# Altium integrated library TI_Logic_Specialty_Logic.IntLib: 2504 symbols (part 22 of 81)
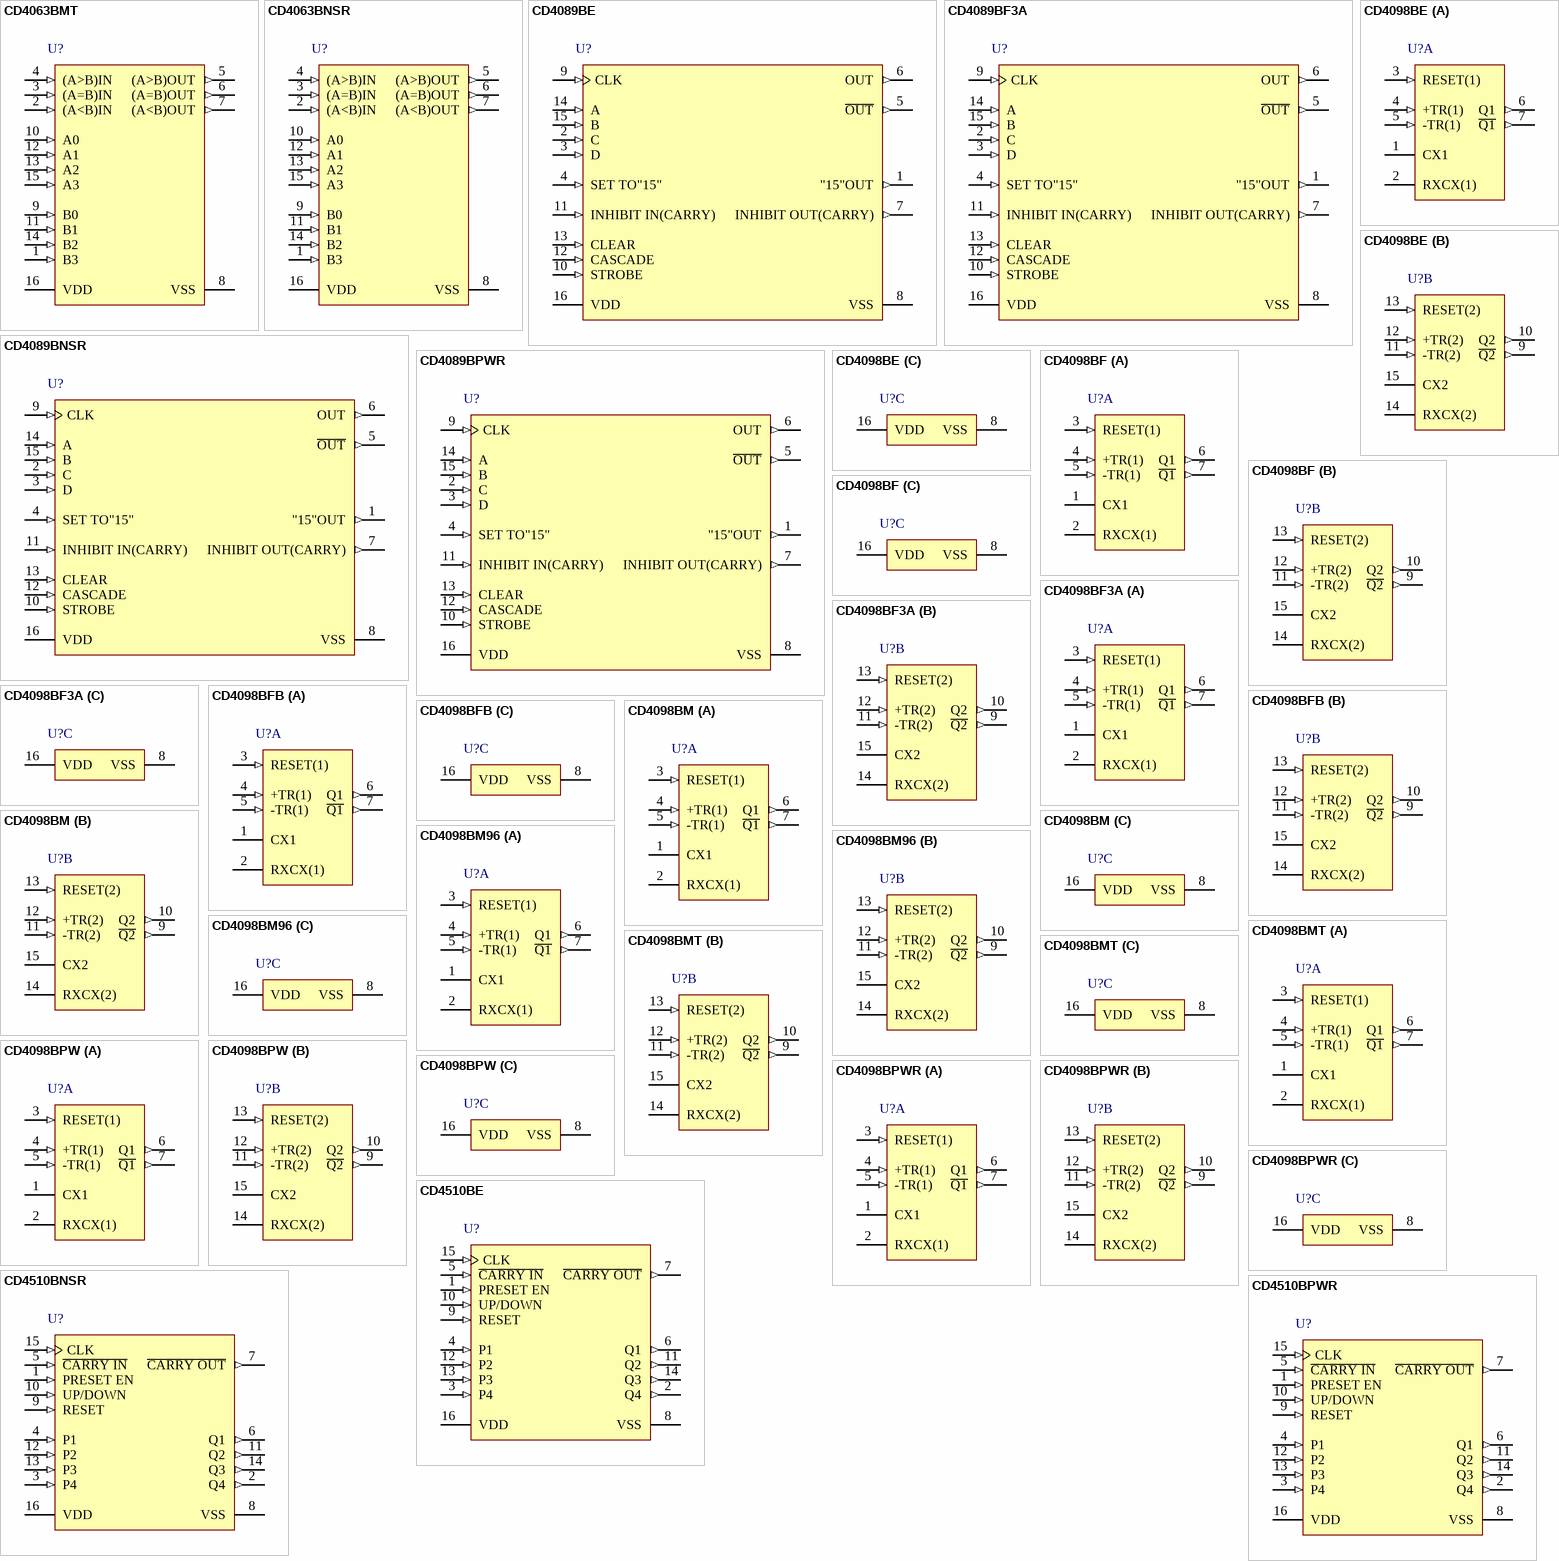
[diagram p125: symbols CD4063BMT to CD4510BPWR]

## CD4098BPWR
designator U?
CMOS Dual Monostable Multivibrator, PW0016A, LARGE T&R; Generic Part Number: CD4098B; Manufacturer: Texas Instruments; PartNumber: CD4098BPWR; VCC(Max)(V): 18; VCC(Min)(V): 3; ICC @ Nom Voltage(Max)(mA): 0.06; Bits(#): 2; F @ Nom Voltage(Max)(Mhz): 8; Rating: Catalog; Technology Family: CD4000; Voltage(Nom)(V): 10; Schmitt Trigger: No; Output Drive (IOL/IOH)(Max)(mA): 4/-4; tpd @ Nom Voltage(Max)(ns): 250; DatasheetVersion: SCHS065C; PackageReference: PW0016A; Supplier 1: Mouser; Supplier Part Number 1: 595-CD4098BPWR; Supplier 2: Digi-Key; Supplier Part Number 2: 296-31527-2-ND; Supplier 3: Digi-Key; Supplier Part Number 3: 296-31527-1-ND; Supplier 4: Digi-Key; Supplier Part Number 4: 296-31527-6-ND; Output Type: CMOS; Input Type: CMOS; Operating Temperature Range(C): -55 to 125; Code_JEDEC: MO-153; ComponentLink1Description: Manufacturer URL; ComponentLink1URL: http://www.ti.com/; ComponentLink2Description: Datasheet; ComponentLink2URL: http://www.ti.com/lit/ds/symlink/cd4098b.pdf; ComponentLink3Description: Package Specification; ComponentLink3URL: http://www.ti.com/lit/ml/mpds361/mpds361.pdf
footprint PW0016A_N (SOP, 16-Leads, Body 5.1x4.5mm, Pitch 0.65mm, IPC Medium Density)
footprint PW0016A_M (SOP, 16-Leads, Body 5.1x4.5mm, Pitch 0.65mm, IPC Low Density)
footprint PW0016A_L (SOP, 16-Leads, Body 5.1x4.5mm, Pitch 0.65mm, IPC High Density)
part A pins: 1 CX1, 2 RXCX(1), 3 RESET(1) (in), 4 +TR(1) (in), 5 -TR(1) (in), 6 Q1 (out), 7 ~{Q1} (out)
part B pins: 9 ~{Q2} (out), 10 Q2 (out), 11 -TR(2) (in), 12 +TR(2) (in), 13 RESET(2) (in), 14 RXCX(2), 15 CX2
part C pins: 8 VSS (power), 16 VDD (power)

## CD4510BE
designator U?
CMOS Presettable BCD Up/Down Counter, N0016A, TUBE; Generic Part Number: CD4510B; Manufacturer: Texas Instruments; PartNumber: CD4510BE; VCC(Max)(V): 18; VCC(Min)(V): 3; Inputs: 1; ICC @ Nom Voltage(Max)(mA): 0.03; Bits(#): 4; F @ Nom Voltage(Max)(Mhz): 8; Rating: Catalog; Technology Family: CD4000; Voltage(Nom)(V): 5,10,15; Schmitt Trigger: No; Output Drive (IOL/IOH)(Max)(mA): 1.5/-1.5; tpd @ Nom Voltage(Max)(ns): 200; DatasheetVersion: SCHS071B; PackageReference: N0016A; Supplier 1: Mouser; Supplier Part Number 1: 595-CD4510BE; Supplier 2: Digi-Key; Supplier Part Number 2: 296-2167-5-ND; Output Type: CMOS; Function: Counter; Input Type: CMOS; Operating Temperature Range(C): -55 to 125; Type: Other; Code_JEDEC: MS-001; ComponentLink1Description: Manufacturer URL; ComponentLink1URL: http://www.ti.com/; ComponentLink2Description: Datasheet; ComponentLink2URL: http://www.ti.com/lit/ds/symlink/cd4510b.pdf; ComponentLink3Description: Package Specification; ComponentLink3URL: http://www.ti.com/lit/ml/mpdi002c/mpdi002c.pdf
footprint N0016A (DIP, 16-Leads, Body 19.7x6.6mm, Pitch 2.54mm)
pins: 1 PRESET EN (in), 2 Q4 (out), 3 P4 (in), 4 P1 (in), 5 ~{CARRY IN} (in), 6 Q1 (out), 7 ~{CARRY OUT} (out), 8 VSS (power), 9 RESET (in), 10 UP/DOWN (in), 11 Q2 (out), 12 P2 (in), 13 P3 (in), 14 Q3 (out), 15 CLK (in), 16 VDD (power)

## CD4510BNSR
designator U?
CMOS Presettable BCD Up/Down Counter, NS0016A, LARGE T&R; Generic Part Number: CD4510B; Manufacturer: Texas Instruments; PartNumber: CD4510BNSR; VCC(Max)(V): 18; VCC(Min)(V): 3; Inputs: 1; ICC @ Nom Voltage(Max)(mA): 0.03; Bits(#): 4; F @ Nom Voltage(Max)(Mhz): 8; Rating: Catalog; Technology Family: CD4000; Voltage(Nom)(V): 5,10,15; Schmitt Trigger: No; Output Drive (IOL/IOH)(Max)(mA): 1.5/-1.5; tpd @ Nom Voltage(Max)(ns): 200; DatasheetVersion: SCHS071B; PackageReference: NS0016A; Supplier 1: Mouser; Supplier Part Number 1: 595-CD4510BNSR; Supplier 2: Digi-Key; Supplier Part Number 2: 296-14152-2-ND; Supplier 3: Digi-Key; Supplier Part Number 3: 296-14152-1-ND; Supplier 4: Digi-Key; Supplier Part Number 4: 296-14152-6-ND; Output Type: CMOS; Function: Counter; Input Type: CMOS; Operating Temperature Range(C): -55 to 125; Type: Other; ComponentLink1Description: Manufacturer URL; ComponentLink1URL: http://www.ti.com/; ComponentLink2Description: Datasheet; ComponentLink2URL: http://www.ti.com/lit/ds/symlink/cd4510b.pdf; ComponentLink3Description: Package Specification; ComponentLink3URL: http://www.ti.com/lit/ml/msop002a/msop002a.pdf
footprint NS0016A_N (SOIC,16-Leads,Body 10.5x5.6mm,Pitch 1.27mm,IPC Medium Density)
footprint NS0016A_M (SOIC,16-Leads,Body 10.5x5.6mm,Pitch 1.27mm,IPC Low Density)
footprint NS0016A_L (SOIC,16-Leads,Body 10.5x5.6mm,Pitch 1.27mm,IPC High Density)
pins: 1 PRESET EN (in), 2 Q4 (out), 3 P4 (in), 4 P1 (in), 5 ~{CARRY IN} (in), 6 Q1 (out), 7 ~{CARRY OUT} (out), 8 VSS (power), 9 RESET (in), 10 UP/DOWN (in), 11 Q2 (out), 12 P2 (in), 13 P3 (in), 14 Q3 (out), 15 CLK (in), 16 VDD (power)

## CD4510BPWR
designator U?
CMOS Presettable BCD Up/Down Counter, PW0016A, LARGE T&R; Generic Part Number: CD4510B; Manufacturer: Texas Instruments; PartNumber: CD4510BPWR; VCC(Max)(V): 18; VCC(Min)(V): 3; Inputs: 1; ICC @ Nom Voltage(Max)(mA): 0.03; Bits(#): 4; F @ Nom Voltage(Max)(Mhz): 8; Rating: Catalog; Technology Family: CD4000; Voltage(Nom)(V): 5,10,15; Schmitt Trigger: No; Output Drive (IOL/IOH)(Max)(mA): 1.5/-1.5; tpd @ Nom Voltage(Max)(ns): 200; DatasheetVersion: SCHS071B; PackageReference: PW0016A; Supplier 1: Mouser; Supplier Part Number 1: 595-CD4510BPWR; Supplier 2: Digi-Key; Supplier Part Number 2: 296-14153-2-ND; Supplier 3: Digi-Key; Supplier Part Number 3: 296-14153-1-ND; Supplier 4: Digi-Key; Supplier Part Number 4: 296-14153-6-ND; Output Type: CMOS; Function: Counter; Input Type: CMOS; Operating Temperature Range(C): -55 to 125; Type: Other; Code_JEDEC: MO-153; ComponentLink1Description: Manufacturer URL; ComponentLink1URL: http://www.ti.com/; ComponentLink2Description: Datasheet; ComponentLink2URL: http://www.ti.com/lit/ds/symlink/cd4510b.pdf; ComponentLink3Description: Package Specification; ComponentLink3URL: http://www.ti.com/lit/ml/mpds361/mpds361.pdf
footprint PW0016A_N (SOP, 16-Leads, Body 5.1x4.5mm, Pitch 0.65mm, IPC Medium Density)
footprint PW0016A_M (SOP, 16-Leads, Body 5.1x4.5mm, Pitch 0.65mm, IPC Low Density)
footprint PW0016A_L (SOP, 16-Leads, Body 5.1x4.5mm, Pitch 0.65mm, IPC High Density)
pins: 1 PRESET EN (in), 2 Q4 (out), 3 P4 (in), 4 P1 (in), 5 ~{CARRY IN} (in), 6 Q1 (out), 7 ~{CARRY OUT} (out), 8 VSS (power), 9 RESET (in), 10 UP/DOWN (in), 11 Q2 (out), 12 P2 (in), 13 P3 (in), 14 Q3 (out), 15 CLK (in), 16 VDD (power)

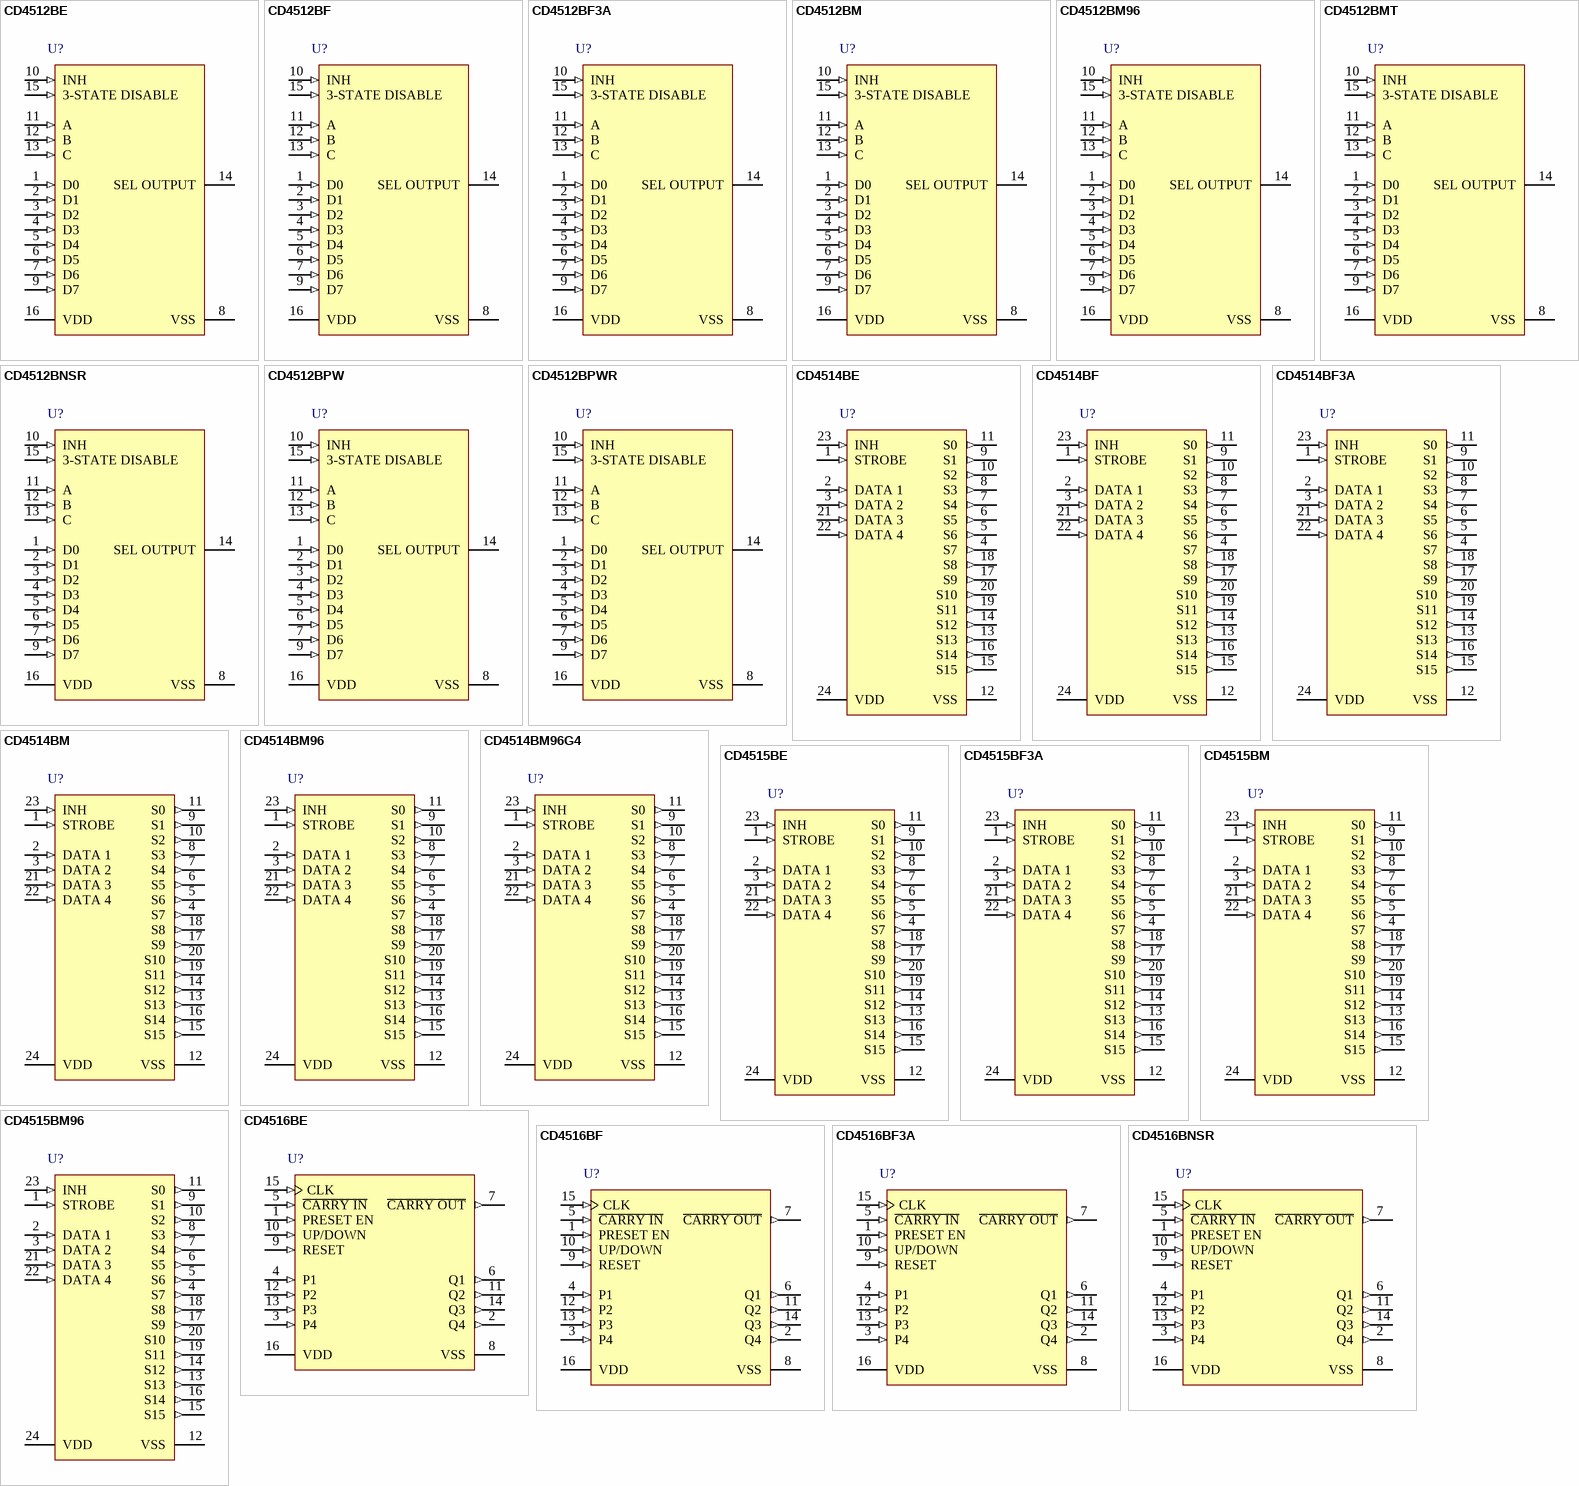
[diagram p28: symbols CD4512BE to CD4516BNSR]

## CD4512BE
designator U?
CMOS 8-Channel Data Selector, N0016A, TUBE; Generic Part Number: CD4512B; Manufacturer: Texas Instruments; PartNumber: CD4512BE; VCC(Max)(V): 18; VCC(Min)(V): 3; Function: Encoder/Multiplexer; ICC @ Nom Voltage(Max)(mA): 0.3; Bits(#): 8; Configuration: 8：1; Channels(#): 1; Rating: Catalog; Technology Family: CD4000; Voltage(Nom)(V): 5,10,15; Schmitt Trigger: No; Output Drive (IOL/IOH)(Max)(mA): 1.5/-1.5; tpd @ Nom Voltage(Max)(ns): 140; DatasheetVersion: SCHS073C; PackageReference: N0016A; Supplier 1: Mouser; Supplier Part Number 1: 595-CD4512BE; Supplier 2: Digi-Key; Supplier Part Number 2: 296-2073-5-ND; Output Type: CMOS; Input Type: CMOS; F @ Nom Voltage(Max)(Mhz): 8; Operating Temperature Range(C): -55 to 125; Type: 3-State Output; Code_JEDEC: MS-001; ComponentLink1Description: Manufacturer URL; ComponentLink1URL: http://www.ti.com/; ComponentLink2Description: Datasheet; ComponentLink2URL: http://www.ti.com/lit/ds/symlink/cd4512b.pdf; ComponentLink3Description: Package Specification; ComponentLink3URL: http://www.ti.com/lit/ml/mpdi002c/mpdi002c.pdf
footprint N0016A (DIP, 16-Leads, Body 19.7x6.6mm, Pitch 2.54mm)
pins: 1 D0 (in), 2 D1 (in), 3 D2 (in), 4 D3 (in), 5 D4 (in), 6 D5 (in), 7 D6 (in), 8 VSS (power), 9 D7 (in), 10 INH (in), 11 A (in), 12 B (in), 13 C (in), 14 SEL OUTPUT (hiz), 15 3-STATE DISABLE (in), 16 VDD (power)

## CD4512BF
designator U?
CMOS 8-Channel Data Selector, J0016A, TUBE; Generic Part Number: CD4512B-MIL; Manufacturer: Texas Instruments; PartNumber: CD4512BF; VCC(Max)(V): 18; VCC(Min)(V): 3; ICC @ Nom Voltage(Max)(mA): 0.3; F @ Nom Voltage(Max)(Mhz): 8; Channels(#): 1; Rating: Military; Technology Family: CD4000; Voltage(Nom)(V): 10; Schmitt Trigger: No; Output Drive (IOL/IOH)(Max)(mA): 1.5/-1.5; tpd @ Nom Voltage(Max)(ns): 140; DatasheetVersion: SCHS073C; PackageReference: J0016A; Output Type: CMOS; Input Type: CMOS; Operating Temperature Range(C): -55 to 125; ComponentLink1Description: Manufacturer URL; ComponentLink1URL: http://www.ti.com/; ComponentLink2Description: Datasheet; ComponentLink2URL: http://www.ti.com/lit/ds/symlink/cd4512b-mil.pdf; ComponentLink3Description: Package Specification; ComponentLink3URL: http://www.ti.com/lit/ml/mcer002d/mcer002d.pdf
footprint J0016A (DIP, 16-Leads, Body 21.35x7.2mm, Pitch 2.54mm)
pins: 1 D0 (in), 2 D1 (in), 3 D2 (in), 4 D3 (in), 5 D4 (in), 6 D5 (in), 7 D6 (in), 8 VSS (power), 9 D7 (in), 10 INH (in), 11 A (in), 12 B (in), 13 C (in), 14 SEL OUTPUT (hiz), 15 3-STATE DISABLE (in), 16 VDD (power)

## CD4512BF3A
designator U?
CMOS 8-Channel Data Selector, J0016A, TUBE; Generic Part Number: CD4512B-MIL; Manufacturer: Texas Instruments; PartNumber: CD4512BF3A; VCC(Max)(V): 18; VCC(Min)(V): 3; ICC @ Nom Voltage(Max)(mA): 0.3; F @ Nom Voltage(Max)(Mhz): 8; Channels(#): 1; Rating: Military; Technology Family: CD4000; Voltage(Nom)(V): 10; Schmitt Trigger: No; Output Drive (IOL/IOH)(Max)(mA): 1.5/-1.5; tpd @ Nom Voltage(Max)(ns): 140; DatasheetVersion: SCHS073C; PackageReference: J0016A; Output Type: CMOS; Input Type: CMOS; Operating Temperature Range(C): -55 to 125; ComponentLink1Description: Manufacturer URL; ComponentLink1URL: http://www.ti.com/; ComponentLink2Description: Datasheet; ComponentLink2URL: http://www.ti.com/lit/ds/symlink/cd4512b-mil.pdf; ComponentLink3Description: Package Specification; ComponentLink3URL: http://www.ti.com/lit/ml/mcer002d/mcer002d.pdf
footprint J0016A (DIP, 16-Leads, Body 21.35x7.2mm, Pitch 2.54mm)
pins: 1 D0 (in), 2 D1 (in), 3 D2 (in), 4 D3 (in), 5 D4 (in), 6 D5 (in), 7 D6 (in), 8 VSS (power), 9 D7 (in), 10 INH (in), 11 A (in), 12 B (in), 13 C (in), 14 SEL OUTPUT (hiz), 15 3-STATE DISABLE (in), 16 VDD (power)

## CD4512BM
designator U?
CMOS 8-Channel Data Selector, D0016A, TUBE; Generic Part Number: CD4512B; Manufacturer: Texas Instruments; PartNumber: CD4512BM; VCC(Max)(V): 18; VCC(Min)(V): 3; Function: Encoder/Multiplexer; ICC @ Nom Voltage(Max)(mA): 0.3; Bits(#): 8; Configuration: 8：1; Channels(#): 1; Rating: Catalog; Technology Family: CD4000; Voltage(Nom)(V): 5,10,15; Schmitt Trigger: No; Output Drive (IOL/IOH)(Max)(mA): 1.5/-1.5; tpd @ Nom Voltage(Max)(ns): 140; DatasheetVersion: SCHS073C; PackageReference: D0016A; Supplier 1: Mouser; Supplier Part Number 1: 595-CD4512BM; Supplier 2: Digi-Key; Supplier Part Number 2: 296-32923-5-ND; Output Type: CMOS; Input Type: CMOS; F @ Nom Voltage(Max)(Mhz): 8; Operating Temperature Range(C): -55 to 125; Type: 3-State Output; Code_JEDEC: MS-012 variation AC; ComponentLink1Description: Manufacturer URL; ComponentLink1URL: http://www.ti.com/; ComponentLink2Description: Datasheet; ComponentLink2URL: http://www.ti.com/lit/ds/symlink/cd4512b.pdf; ComponentLink3Description: Package Specification; ComponentLink3URL: http://www.ti.com/lit/ml/mpds178g/mpds178g.pdf
footprint D0016A_N (SOIC, 16-Leads, Body 10x4mm, Pitch 1.27mm, IPC Medium Density)
footprint D0016A_M (SOIC, 16-Leads, Body 10x4mm, Pitch 1.27mm, IPC Low Density)
footprint D0016A_L (SOIC, 16-Leads, Body 10x4mm, Pitch 1.27mm, IPC High Density)
pins: 1 D0 (in), 2 D1 (in), 3 D2 (in), 4 D3 (in), 5 D4 (in), 6 D5 (in), 7 D6 (in), 8 VSS (power), 9 D7 (in), 10 INH (in), 11 A (in), 12 B (in), 13 C (in), 14 SEL OUTPUT (hiz), 15 3-STATE DISABLE (in), 16 VDD (power)

## CD4512BM96
designator U?
CMOS 8-Channel Data Selector, D0016A, LARGE T&R; Generic Part Number: CD4512B; Manufacturer: Texas Instruments; PartNumber: CD4512BM96; VCC(Max)(V): 18; VCC(Min)(V): 3; Function: Encoder/Multiplexer; ICC @ Nom Voltage(Max)(mA): 0.3; Bits(#): 8; Configuration: 8：1; Channels(#): 1; Rating: Catalog; Technology Family: CD4000; Voltage(Nom)(V): 5,10,15; Schmitt Trigger: No; Output Drive (IOL/IOH)(Max)(mA): 1.5/-1.5; tpd @ Nom Voltage(Max)(ns): 140; DatasheetVersion: SCHS073C; PackageReference: D0016A; Supplier 1: Mouser; Supplier Part Number 1: 595-CD4512BM96; Supplier 2: Digi-Key; Supplier Part Number 2: 296-16676-2-ND; Supplier 3: Digi-Key; Supplier Part Number 3: 296-16676-1-ND; Supplier 4: Digi-Key; Supplier Part Number 4: 296-16676-6-ND; Output Type: CMOS; Input Type: CMOS; F @ Nom Voltage(Max)(Mhz): 8; Operating Temperature Range(C): -55 to 125; Type: 3-State Output; Code_JEDEC: MS-012 variation AC; ComponentLink1Description: Manufacturer URL; ComponentLink1URL: http://www.ti.com/; ComponentLink2Description: Datasheet; ComponentLink2URL: http://www.ti.com/lit/ds/symlink/cd4512b.pdf; ComponentLink3Description: Package Specification; ComponentLink3URL: http://www.ti.com/lit/ml/mpds178g/mpds178g.pdf
footprint D0016A_N (SOIC, 16-Leads, Body 10x4mm, Pitch 1.27mm, IPC Medium Density)
footprint D0016A_M (SOIC, 16-Leads, Body 10x4mm, Pitch 1.27mm, IPC Low Density)
footprint D0016A_L (SOIC, 16-Leads, Body 10x4mm, Pitch 1.27mm, IPC High Density)
pins: 1 D0 (in), 2 D1 (in), 3 D2 (in), 4 D3 (in), 5 D4 (in), 6 D5 (in), 7 D6 (in), 8 VSS (power), 9 D7 (in), 10 INH (in), 11 A (in), 12 B (in), 13 C (in), 14 SEL OUTPUT (hiz), 15 3-STATE DISABLE (in), 16 VDD (power)

## CD4512BMT
designator U?
CMOS 8-Channel Data Selector, D0016A, SMALL T&R; Generic Part Number: CD4512B; Manufacturer: Texas Instruments; PartNumber: CD4512BMT; VCC(Max)(V): 18; VCC(Min)(V): 3; Function: Encoder/Multiplexer; ICC @ Nom Voltage(Max)(mA): 0.3; Bits(#): 8; Configuration: 8：1; Channels(#): 1; Rating: Catalog; Technology Family: CD4000; Voltage(Nom)(V): 5,10,15; Schmitt Trigger: No; Output Drive (IOL/IOH)(Max)(mA): 1.5/-1.5; tpd @ Nom Voltage(Max)(ns): 140; DatasheetVersion: SCHS073C; PackageReference: D0016A; Supplier 1: Mouser; Supplier Part Number 1: 595-CD4512BMT; Supplier 2: Digi-Key; Supplier Part Number 2: CD4512BMT-ND; Output Type: CMOS; Input Type: CMOS; F @ Nom Voltage(Max)(Mhz): 8; Operating Temperature Range(C): -55 to 125; Type: 3-State Output; Code_JEDEC: MS-012 variation AC; ComponentLink1Description: Manufacturer URL; ComponentLink1URL: http://www.ti.com/; ComponentLink2Description: Datasheet; ComponentLink2URL: http://www.ti.com/lit/ds/symlink/cd4512b.pdf; ComponentLink3Description: Package Specification; ComponentLink3URL: http://www.ti.com/lit/ml/mpds178g/mpds178g.pdf
footprint D0016A_N (SOIC, 16-Leads, Body 10x4mm, Pitch 1.27mm, IPC Medium Density)
footprint D0016A_M (SOIC, 16-Leads, Body 10x4mm, Pitch 1.27mm, IPC Low Density)
footprint D0016A_L (SOIC, 16-Leads, Body 10x4mm, Pitch 1.27mm, IPC High Density)
pins: 1 D0 (in), 2 D1 (in), 3 D2 (in), 4 D3 (in), 5 D4 (in), 6 D5 (in), 7 D6 (in), 8 VSS (power), 9 D7 (in), 10 INH (in), 11 A (in), 12 B (in), 13 C (in), 14 SEL OUTPUT (hiz), 15 3-STATE DISABLE (in), 16 VDD (power)

## CD4512BNSR
designator U?
CMOS 8-Channel Data Selector, NS0016A, LARGE T&R; Generic Part Number: CD4512B; Manufacturer: Texas Instruments; PartNumber: CD4512BNSR; VCC(Max)(V): 18; VCC(Min)(V): 3; Function: Encoder/Multiplexer; ICC @ Nom Voltage(Max)(mA): 0.3; Bits(#): 8; Configuration: 8：1; Channels(#): 1; Rating: Catalog; Technology Family: CD4000; Voltage(Nom)(V): 5,10,15; Schmitt Trigger: No; Output Drive (IOL/IOH)(Max)(mA): 1.5/-1.5; tpd @ Nom Voltage(Max)(ns): 140; DatasheetVersion: SCHS073C; PackageReference: NS0016A; Supplier 1: Mouser; Supplier Part Number 1: 595-CD4512BNSR; Supplier 2: Digi-Key; Supplier Part Number 2: 296-29271-2-ND; Supplier 3: Digi-Key; Supplier Part Number 3: 296-29271-1-ND; Supplier 4: Digi-Key; Supplier Part Number 4: 296-29271-6-ND; Output Type: CMOS; Input Type: CMOS; F @ Nom Voltage(Max)(Mhz): 8; Operating Temperature Range(C): -55 to 125; Type: 3-State Output; ComponentLink1Description: Manufacturer URL; ComponentLink1URL: http://www.ti.com/; ComponentLink2Description: Datasheet; ComponentLink2URL: http://www.ti.com/lit/ds/symlink/cd4512b.pdf; ComponentLink3Description: Package Specification; ComponentLink3URL: http://www.ti.com/lit/ml/msop002a/msop002a.pdf
footprint NS0016A_N (SOIC,16-Leads,Body 10.5x5.6mm,Pitch 1.27mm,IPC Medium Density)
footprint NS0016A_M (SOIC,16-Leads,Body 10.5x5.6mm,Pitch 1.27mm,IPC Low Density)
footprint NS0016A_L (SOIC,16-Leads,Body 10.5x5.6mm,Pitch 1.27mm,IPC High Density)
pins: 1 D0 (in), 2 D1 (in), 3 D2 (in), 4 D3 (in), 5 D4 (in), 6 D5 (in), 7 D6 (in), 8 VSS (power), 9 D7 (in), 10 INH (in), 11 A (in), 12 B (in), 13 C (in), 14 SEL OUTPUT (hiz), 15 3-STATE DISABLE (in), 16 VDD (power)

## CD4512BPW
designator U?
CMOS 8-Channel Data Selector, PW0016A, TUBE; Generic Part Number: CD4512B; Manufacturer: Texas Instruments; PartNumber: CD4512BPW; VCC(Max)(V): 18; VCC(Min)(V): 3; Function: Encoder/Multiplexer; ICC @ Nom Voltage(Max)(mA): 0.3; Bits(#): 8; Configuration: 8：1; Channels(#): 1; Rating: Catalog; Technology Family: CD4000; Voltage(Nom)(V): 5,10,15; Schmitt Trigger: No; Output Drive (IOL/IOH)(Max)(mA): 1.5/-1.5; tpd @ Nom Voltage(Max)(ns): 140; DatasheetVersion: SCHS073C; PackageReference: PW0016A; Supplier 1: Mouser; Supplier Part Number 1: 595-CD4512BPW; Supplier 2: Digi-Key; Supplier Part Number 2: CD4512BPW-ND; Output Type: CMOS; Input Type: CMOS; F @ Nom Voltage(Max)(Mhz): 8; Operating Temperature Range(C): -55 to 125; Type: 3-State Output; Code_JEDEC: MO-153; ComponentLink1Description: Manufacturer URL; ComponentLink1URL: http://www.ti.com/; ComponentLink2Description: Datasheet; ComponentLink2URL: http://www.ti.com/lit/ds/symlink/cd4512b.pdf; ComponentLink3Description: Package Specification; ComponentLink3URL: http://www.ti.com/lit/ml/mpds361/mpds361.pdf
footprint PW0016A_N (SOP, 16-Leads, Body 5.1x4.5mm, Pitch 0.65mm, IPC Medium Density)
footprint PW0016A_M (SOP, 16-Leads, Body 5.1x4.5mm, Pitch 0.65mm, IPC Low Density)
footprint PW0016A_L (SOP, 16-Leads, Body 5.1x4.5mm, Pitch 0.65mm, IPC High Density)
pins: 1 D0 (in), 2 D1 (in), 3 D2 (in), 4 D3 (in), 5 D4 (in), 6 D5 (in), 7 D6 (in), 8 VSS (power), 9 D7 (in), 10 INH (in), 11 A (in), 12 B (in), 13 C (in), 14 SEL OUTPUT (hiz), 15 3-STATE DISABLE (in), 16 VDD (power)

## CD4512BPWR
designator U?
CMOS 8-Channel Data Selector, PW0016A, LARGE T&R; Generic Part Number: CD4512B; Manufacturer: Texas Instruments; PartNumber: CD4512BPWR; VCC(Max)(V): 18; VCC(Min)(V): 3; Function: Encoder/Multiplexer; ICC @ Nom Voltage(Max)(mA): 0.3; Bits(#): 8; Configuration: 8：1; Channels(#): 1; Rating: Catalog; Technology Family: CD4000; Voltage(Nom)(V): 5,10,15; Schmitt Trigger: No; Output Drive (IOL/IOH)(Max)(mA): 1.5/-1.5; tpd @ Nom Voltage(Max)(ns): 140; DatasheetVersion: SCHS073C; PackageReference: PW0016A; Supplier 1: Mouser; Supplier Part Number 1: 595-CD4512BPWR; Supplier 2: Digi-Key; Supplier Part Number 2: CD4512BPWR-ND; Output Type: CMOS; Input Type: CMOS; F @ Nom Voltage(Max)(Mhz): 8; Operating Temperature Range(C): -55 to 125; Type: 3-State Output; Code_JEDEC: MO-153; ComponentLink1Description: Manufacturer URL; ComponentLink1URL: http://www.ti.com/; ComponentLink2Description: Datasheet; ComponentLink2URL: http://www.ti.com/lit/ds/symlink/cd4512b.pdf; ComponentLink3Description: Package Specification; ComponentLink3URL: http://www.ti.com/lit/ml/mpds361/mpds361.pdf
footprint PW0016A_N (SOP, 16-Leads, Body 5.1x4.5mm, Pitch 0.65mm, IPC Medium Density)
footprint PW0016A_M (SOP, 16-Leads, Body 5.1x4.5mm, Pitch 0.65mm, IPC Low Density)
footprint PW0016A_L (SOP, 16-Leads, Body 5.1x4.5mm, Pitch 0.65mm, IPC High Density)
pins: 1 D0 (in), 2 D1 (in), 3 D2 (in), 4 D3 (in), 5 D4 (in), 6 D5 (in), 7 D6 (in), 8 VSS (power), 9 D7 (in), 10 INH (in), 11 A (in), 12 B (in), 13 C (in), 14 SEL OUTPUT (hiz), 15 3-STATE DISABLE (in), 16 VDD (power)

## CD4514BE
designator U?
CMOS 4-Bit Latch/4-to-16 Line Decoder with Output 'High' on Select, N0024A, TUBE; Generic Part Number: CD4514B; Manufacturer: Texas Instruments; PartNumber: CD4514BE; VCC(Max)(V): 18; VCC(Min)(V): 3; Function: Decoder/Demultiplexer; ICC @ Nom Voltage(Max)(mA): 0.3; Bits(#): 16; F @ Nom Voltage(Max)(Mhz): 8; Configuration: 4：16; Channels(#): 4; Rating: Catalog; Technology Family: CD4000; Voltage(Nom)(V): 5,10,15; Schmitt Trigger: No; Output Drive (IOL/IOH)(Max)(mA): 1.5/-1.5; tpd @ Nom Voltage(Max)(ns): 370; DatasheetVersion: SCHS074A; PackageReference: N0024A; Supplier 1: Mouser; Supplier Part Number 1: 595-CD4514BE; Supplier 2: Digi-Key; Supplier Part Number 2: 296-2074-5-ND; Output Type: CMOS; Input Type: CMOS; Operating Temperature Range(C): -55 to 125; Type: Standard; Code_JEDEC: MS-011; ComponentLink1Description: Manufacturer URL; ComponentLink1URL: http://www.ti.com/; ComponentLink2Description: Datasheet; ComponentLink2URL: http://www.ti.com/lit/ds/symlink/cd4514b.pdf; ComponentLink3Description: Package Specification; ComponentLink3URL: http://www.ti.com/lit/ml/mpdi008/mpdi008.pdf
footprint N0024A (DIP, 24-Leads, Body 32.25x14.2mm, Pitch 2.54mm)
pins: 1 STROBE (in), 2 DATA 1 (in), 3 DATA 2 (in), 4 S7 (out), 5 S6 (out), 6 S5 (out), 7 S4 (out), 8 S3 (out), 9 S1 (out), 10 S2 (out), 11 S0 (out), 12 VSS (power), 13 S13 (out), 14 S12 (out), 15 S15 (out), 16 S14 (out), 17 S9 (out), 18 S8 (out), 19 S11 (out), 20 S10 (out), 21 DATA 3 (in), 22 DATA 4 (in), 23 INH (in), 24 VDD (power)

## CD4514BF
designator U?
CMOS 4-Bit Latch/4-to-16 Line Decoder with Output 'High' on Select, J0024A, TUBE; Generic Part Number: CD4514B-MIL; Manufacturer: Texas Instruments; PartNumber: CD4514BF; VCC(Max)(V): 18; VCC(Min)(V): 3; ICC @ Nom Voltage(Max)(mA): 0.3; F @ Nom Voltage(Max)(Mhz): 8; Channels(#): 4; Rating: Military; Technology Family: CD4000; Voltage(Nom)(V): 10; Schmitt Trigger: No; Output Drive (IOL/IOH)(Max)(mA): 1.5/-1.5; tpd @ Nom Voltage(Max)(ns): 370; DatasheetVersion: SCHS074A; PackageReference: J0024A; Output Type: CMOS; Input Type: CMOS; Operating Temperature Range(C): -55 to 125; ComponentLink1Description: Manufacturer URL; ComponentLink1URL: http://www.ti.com/; ComponentLink2Description: Datasheet; ComponentLink2URL: http://www.ti.com/lit/ds/symlink/cd4514b-mil.pdf; ComponentLink3Description: Package Specification; ComponentLink3URL: http://www.ti.com/lit/ml/mcer002d/mcer002d.pdf
footprint J0024A (DIP, 24-Leads, Body 32.15x14.85mm, Pitch 2.54mm)
pins: 1 STROBE (in), 2 DATA 1 (in), 3 DATA 2 (in), 4 S7 (out), 5 S6 (out), 6 S5 (out), 7 S4 (out), 8 S3 (out), 9 S1 (out), 10 S2 (out), 11 S0 (out), 12 VSS (power), 13 S13 (out), 14 S12 (out), 15 S15 (out), 16 S14 (out), 17 S9 (out), 18 S8 (out), 19 S11 (out), 20 S10 (out), 21 DATA 3 (in), 22 DATA 4 (in), 23 INH (in), 24 VDD (power)

## CD4514BF3A
designator U?
CMOS 4-Bit Latch/4-to-16 Line Decoder with Output 'High' on Select, J0024A, TUBE; Generic Part Number: CD4514B-MIL; Manufacturer: Texas Instruments; PartNumber: CD4514BF3A; VCC(Max)(V): 18; VCC(Min)(V): 3; ICC @ Nom Voltage(Max)(mA): 0.3; F @ Nom Voltage(Max)(Mhz): 8; Channels(#): 4; Rating: Military; Technology Family: CD4000; Voltage(Nom)(V): 10; Schmitt Trigger: No; Output Drive (IOL/IOH)(Max)(mA): 1.5/-1.5; tpd @ Nom Voltage(Max)(ns): 370; DatasheetVersion: SCHS074A; PackageReference: J0024A; Output Type: CMOS; Input Type: CMOS; Operating Temperature Range(C): -55 to 125; ComponentLink1Description: Manufacturer URL; ComponentLink1URL: http://www.ti.com/; ComponentLink2Description: Datasheet; ComponentLink2URL: http://www.ti.com/lit/ds/symlink/cd4514b-mil.pdf; ComponentLink3Description: Package Specification; ComponentLink3URL: http://www.ti.com/lit/ml/mcer002d/mcer002d.pdf
footprint J0024A (DIP, 24-Leads, Body 32.15x14.85mm, Pitch 2.54mm)
pins: 1 STROBE (in), 2 DATA 1 (in), 3 DATA 2 (in), 4 S7 (out), 5 S6 (out), 6 S5 (out), 7 S4 (out), 8 S3 (out), 9 S1 (out), 10 S2 (out), 11 S0 (out), 12 VSS (power), 13 S13 (out), 14 S12 (out), 15 S15 (out), 16 S14 (out), 17 S9 (out), 18 S8 (out), 19 S11 (out), 20 S10 (out), 21 DATA 3 (in), 22 DATA 4 (in), 23 INH (in), 24 VDD (power)

## CD4514BM
designator U?
CMOS 4-Bit Latch/4-to-16 Line Decoder with Output 'High' on Select, DW0024A, TUBE; Generic Part Number: CD4514B; Manufacturer: Texas Instruments; PartNumber: CD4514BM; VCC(Max)(V): 18; VCC(Min)(V): 3; Function: Decoder/Demultiplexer; ICC @ Nom Voltage(Max)(mA): 0.3; Bits(#): 16; F @ Nom Voltage(Max)(Mhz): 8; Configuration: 4：16; Channels(#): 4; Rating: Catalog; Technology Family: CD4000; Voltage(Nom)(V): 5,10,15; Schmitt Trigger: No; Output Drive (IOL/IOH)(Max)(mA): 1.5/-1.5; tpd @ Nom Voltage(Max)(ns): 370; DatasheetVersion: SCHS074A; PackageReference: DW0024A; Supplier 1: Mouser; Supplier Part Number 1: 595-CD4514BM; Supplier 2: Digi-Key; Supplier Part Number 2: 296-14282-5-ND; Output Type: CMOS; Input Type: CMOS; Operating Temperature Range(C): -55 to 125; Type: Standard; Code_JEDEC: MS-013; ComponentLink1Description: Manufacturer URL; ComponentLink1URL: http://www.ti.com/; ComponentLink2Description: Datasheet; ComponentLink2URL: http://www.ti.com/lit/ds/symlink/cd4514b.pdf; ComponentLink3Description: Package Specification; ComponentLink3URL: http://www.ti.com/lit/ml/mpds174a/mpds174a.pdf
footprint DW0024A_N (SOIC, 24-Leads, Body 15.6x7.6mm, Pitch 1.27mm, IPC Medium Density)
footprint DW0024A_M (SOIC, 24-Leads, Body 15.6x7.6mm, Pitch 1.27mm, IPC Low Density)
footprint DW0024A_L (SOIC, 24-Leads, Body 15.6x7.6mm, Pitch 1.27mm, IPC High Density)
pins: 1 STROBE (in), 2 DATA 1 (in), 3 DATA 2 (in), 4 S7 (out), 5 S6 (out), 6 S5 (out), 7 S4 (out), 8 S3 (out), 9 S1 (out), 10 S2 (out), 11 S0 (out), 12 VSS (power), 13 S13 (out), 14 S12 (out), 15 S15 (out), 16 S14 (out), 17 S9 (out), 18 S8 (out), 19 S11 (out), 20 S10 (out), 21 DATA 3 (in), 22 DATA 4 (in), 23 INH (in), 24 VDD (power)

## CD4514BM96
designator U?
CMOS 4-Bit Latch/4-to-16 Line Decoder with Output 'High' on Select, DW0024A, LARGE T&R; Generic Part Number: CD4514B; Manufacturer: Texas Instruments; PartNumber: CD4514BM96; VCC(Max)(V): 18; VCC(Min)(V): 3; Function: Decoder/Demultiplexer; ICC @ Nom Voltage(Max)(mA): 0.3; Bits(#): 16; F @ Nom Voltage(Max)(Mhz): 8; Configuration: 4：16; Channels(#): 4; Rating: Catalog; Technology Family: CD4000; Voltage(Nom)(V): 5,10,15; Schmitt Trigger: No; Output Drive (IOL/IOH)(Max)(mA): 1.5/-1.5; tpd @ Nom Voltage(Max)(ns): 370; DatasheetVersion: SCHS074A; PackageReference: DW0024A; Supplier 1: Mouser; Supplier Part Number 1: 595-CD4514BM96; Supplier 2: Digi-Key; Supplier Part Number 2: 296-31529-2-ND; Supplier 3: Digi-Key; Supplier Part Number 3: 296-31529-1-ND; Supplier 4: Digi-Key; Supplier Part Number 4: 296-31529-6-ND; Output Type: CMOS; Input Type: CMOS; Operating Temperature Range(C): -55 to 125; Type: Standard; Code_JEDEC: MS-013; ComponentLink1Description: Manufacturer URL; ComponentLink1URL: http://www.ti.com/; ComponentLink2Description: Datasheet; ComponentLink2URL: http://www.ti.com/lit/ds/symlink/cd4514b.pdf; ComponentLink3Description: Package Specification; ComponentLink3URL: http://www.ti.com/lit/ml/mpds174a/mpds174a.pdf
footprint DW0024A_N (SOIC, 24-Leads, Body 15.6x7.6mm, Pitch 1.27mm, IPC Medium Density)
footprint DW0024A_M (SOIC, 24-Leads, Body 15.6x7.6mm, Pitch 1.27mm, IPC Low Density)
footprint DW0024A_L (SOIC, 24-Leads, Body 15.6x7.6mm, Pitch 1.27mm, IPC High Density)
pins: 1 STROBE (in), 2 DATA 1 (in), 3 DATA 2 (in), 4 S7 (out), 5 S6 (out), 6 S5 (out), 7 S4 (out), 8 S3 (out), 9 S1 (out), 10 S2 (out), 11 S0 (out), 12 VSS (power), 13 S13 (out), 14 S12 (out), 15 S15 (out), 16 S14 (out), 17 S9 (out), 18 S8 (out), 19 S11 (out), 20 S10 (out), 21 DATA 3 (in), 22 DATA 4 (in), 23 INH (in), 24 VDD (power)

## CD4514BM96G4
designator U?
CMOS 4-Bit Latch/4-to-16 Line Decoder with Output 'High' on Select, DW0024A, LARGE T&R; Generic Part Number: CD4514B; Manufacturer: Texas Instruments; PartNumber: CD4514BM96G4; VCC(Max)(V): 18; VCC(Min)(V): 3; Function: Decoder/Demultiplexer; ICC @ Nom Voltage(Max)(mA): 0.3; Bits(#): 16; F @ Nom Voltage(Max)(Mhz): 8; Configuration: 4：16; Channels(#): 4; Rating: Catalog; Technology Family: CD4000; Voltage(Nom)(V): 5,10,15; Schmitt Trigger: No; Output Drive (IOL/IOH)(Max)(mA): 1.5/-1.5; tpd @ Nom Voltage(Max)(ns): 370; DatasheetVersion: SCHS074A; PackageReference: DW0024A; Supplier 1: Mouser; Supplier Part Number 1: 595-CD4514BM96G4; Supplier 2: Digi-Key; Supplier Part Number 2: 296-31530-2-ND; Supplier 3: Digi-Key; Supplier Part Number 3: 296-31530-1-ND; Supplier 4: Digi-Key; Supplier Part Number 4: 296-31530-6-ND; Output Type: CMOS; Input Type: CMOS; Operating Temperature Range(C): -55 to 125; Type: Standard; Code_JEDEC: MS-013; ComponentLink1Description: Manufacturer URL; ComponentLink1URL: http://www.ti.com/; ComponentLink2Description: Datasheet; ComponentLink2URL: http://www.ti.com/lit/ds/symlink/cd4514b.pdf; ComponentLink3Description: Package Specification; ComponentLink3URL: http://www.ti.com/lit/ml/mpds174a/mpds174a.pdf
footprint DW0024A_N (SOIC, 24-Leads, Body 15.6x7.6mm, Pitch 1.27mm, IPC Medium Density)
footprint DW0024A_M (SOIC, 24-Leads, Body 15.6x7.6mm, Pitch 1.27mm, IPC Low Density)
footprint DW0024A_L (SOIC, 24-Leads, Body 15.6x7.6mm, Pitch 1.27mm, IPC High Density)
pins: 1 STROBE (in), 2 DATA 1 (in), 3 DATA 2 (in), 4 S7 (out), 5 S6 (out), 6 S5 (out), 7 S4 (out), 8 S3 (out), 9 S1 (out), 10 S2 (out), 11 S0 (out), 12 VSS (power), 13 S13 (out), 14 S12 (out), 15 S15 (out), 16 S14 (out), 17 S9 (out), 18 S8 (out), 19 S11 (out), 20 S10 (out), 21 DATA 3 (in), 22 DATA 4 (in), 23 INH (in), 24 VDD (power)

## CD4515BE
designator U?
CMOS 4-Bit Latch/4-to-16 Line Decoder, N0024A, TUBE; Generic Part Number: CD4515B; Manufacturer: Texas Instruments; PartNumber: CD4515BE; VCC(Max)(V): 18; VCC(Min)(V): 3; Function: Decoder/Demultiplexer; ICC @ Nom Voltage(Max)(mA): 0.3; Bits(#): 16; F @ Nom Voltage(Max)(Mhz): 8; Configuration: 4：16; Channels(#): 4; Rating: Catalog; Technology Family: CD4000; Voltage(Nom)(V): 5,10,15; Schmitt Trigger: No; Output Drive (IOL/IOH)(Max)(mA): 1.5/-1.5; tpd @ Nom Voltage(Max)(ns): 370; DatasheetVersion: SCHS074A; PackageReference: N0024A; Supplier 1: Mouser; Supplier Part Number 1: 595-CD4515BE; Supplier 2: Digi-Key; Supplier Part Number 2: 296-2168-5-ND; Output Type: CMOS; Input Type: CMOS; Operating Temperature Range(C): -55 to 125; Type: Standard; Code_JEDEC: MS-011; ComponentLink1Description: Manufacturer URL; ComponentLink1URL: http://www.ti.com/; ComponentLink2Description: Datasheet; ComponentLink2URL: http://www.ti.com/lit/ds/symlink/cd4515b.pdf; ComponentLink3Description: Package Specification; ComponentLink3URL: http://www.ti.com/lit/ml/mpdi008/mpdi008.pdf
footprint N0024A (DIP, 24-Leads, Body 32.25x14.2mm, Pitch 2.54mm)
pins: 1 STROBE (in), 2 DATA 1 (in), 3 DATA 2 (in), 4 S7 (out), 5 S6 (out), 6 S5 (out), 7 S4 (out), 8 S3 (out), 9 S1 (out), 10 S2 (out), 11 S0 (out), 12 VSS (power), 13 S13 (out), 14 S12 (out), 15 S15 (out), 16 S14 (out), 17 S9 (out), 18 S8 (out), 19 S11 (out), 20 S10 (out), 21 DATA 3 (in), 22 DATA 4 (in), 23 INH (in), 24 VDD (power)

## CD4515BF3A
designator U?
CMOS 4-Bit Latch/4-to-16 Line Decoder, J0024A, TUBE; Generic Part Number: CD4515B-MIL; Manufacturer: Texas Instruments; PartNumber: CD4515BF3A; VCC(Max)(V): 18; VCC(Min)(V): 3; ICC @ Nom Voltage(Max)(mA): 0.3; F @ Nom Voltage(Max)(Mhz): 8; Channels(#): 4; Rating: Military; Technology Family: CD4000; Voltage(Nom)(V): 10; Schmitt Trigger: No; Output Drive (IOL/IOH)(Max)(mA): 1.5/-1.5; tpd @ Nom Voltage(Max)(ns): 370; DatasheetVersion: SCHS074A; PackageReference: J0024A; Output Type: CMOS; Input Type: CMOS; Operating Temperature Range(C): -55 to 125; ComponentLink1Description: Manufacturer URL; ComponentLink1URL: http://www.ti.com/; ComponentLink2Description: Datasheet; ComponentLink2URL: http://www.ti.com/lit/ds/symlink/cd4515b-mil.pdf; ComponentLink3Description: Package Specification; ComponentLink3URL: http://www.ti.com/lit/ml/mcer002d/mcer002d.pdf
footprint J0024A (DIP, 24-Leads, Body 32.15x14.85mm, Pitch 2.54mm)
pins: 1 STROBE (in), 2 DATA 1 (in), 3 DATA 2 (in), 4 S7 (out), 5 S6 (out), 6 S5 (out), 7 S4 (out), 8 S3 (out), 9 S1 (out), 10 S2 (out), 11 S0 (out), 12 VSS (power), 13 S13 (out), 14 S12 (out), 15 S15 (out), 16 S14 (out), 17 S9 (out), 18 S8 (out), 19 S11 (out), 20 S10 (out), 21 DATA 3 (in), 22 DATA 4 (in), 23 INH (in), 24 VDD (power)

## CD4515BM
designator U?
CMOS 4-Bit Latch/4-to-16 Line Decoder, DW0024A, TUBE; Generic Part Number: CD4515B; Manufacturer: Texas Instruments; PartNumber: CD4515BM; VCC(Max)(V): 18; VCC(Min)(V): 3; Function: Decoder/Demultiplexer; ICC @ Nom Voltage(Max)(mA): 0.3; Bits(#): 16; F @ Nom Voltage(Max)(Mhz): 8; Configuration: 4：16; Channels(#): 4; Rating: Catalog; Technology Family: CD4000; Voltage(Nom)(V): 5,10,15; Schmitt Trigger: No; Output Drive (IOL/IOH)(Max)(mA): 1.5/-1.5; tpd @ Nom Voltage(Max)(ns): 370; DatasheetVersion: SCHS074A; PackageReference: DW0024A; Supplier 1: Mouser; Supplier Part Number 1: 595-CD4515BM; Supplier 2: Digi-Key; Supplier Part Number 2: 296-14284-5-ND; Output Type: CMOS; Input Type: CMOS; Operating Temperature Range(C): -55 to 125; Type: Standard; Code_JEDEC: MS-013; ComponentLink1Description: Manufacturer URL; ComponentLink1URL: http://www.ti.com/; ComponentLink2Description: Datasheet; ComponentLink2URL: http://www.ti.com/lit/ds/symlink/cd4515b.pdf; ComponentLink3Description: Package Specification; ComponentLink3URL: http://www.ti.com/lit/ml/mpds174a/mpds174a.pdf
footprint DW0024A_N (SOIC, 24-Leads, Body 15.6x7.6mm, Pitch 1.27mm, IPC Medium Density)
footprint DW0024A_M (SOIC, 24-Leads, Body 15.6x7.6mm, Pitch 1.27mm, IPC Low Density)
footprint DW0024A_L (SOIC, 24-Leads, Body 15.6x7.6mm, Pitch 1.27mm, IPC High Density)
pins: 1 STROBE (in), 2 DATA 1 (in), 3 DATA 2 (in), 4 S7 (out), 5 S6 (out), 6 S5 (out), 7 S4 (out), 8 S3 (out), 9 S1 (out), 10 S2 (out), 11 S0 (out), 12 VSS (power), 13 S13 (out), 14 S12 (out), 15 S15 (out), 16 S14 (out), 17 S9 (out), 18 S8 (out), 19 S11 (out), 20 S10 (out), 21 DATA 3 (in), 22 DATA 4 (in), 23 INH (in), 24 VDD (power)

## CD4515BM96
designator U?
CMOS 4-Bit Latch/4-to-16 Line Decoder, DW0024A, LARGE T&R; Generic Part Number: CD4515B; Manufacturer: Texas Instruments; PartNumber: CD4515BM96; VCC(Max)(V): 18; VCC(Min)(V): 3; Function: Decoder/Demultiplexer; ICC @ Nom Voltage(Max)(mA): 0.3; Bits(#): 16; F @ Nom Voltage(Max)(Mhz): 8; Configuration: 4：16; Channels(#): 4; Rating: Catalog; Technology Family: CD4000; Voltage(Nom)(V): 5,10,15; Schmitt Trigger: No; Output Drive (IOL/IOH)(Max)(mA): 1.5/-1.5; tpd @ Nom Voltage(Max)(ns): 370; DatasheetVersion: SCHS074A; PackageReference: DW0024A; Supplier 1: Mouser; Supplier Part Number 1: 595-CD4515BM96; Supplier 2: Digi-Key; Supplier Part Number 2: 296-31531-2-ND; Supplier 3: Digi-Key; Supplier Part Number 3: 296-31531-1-ND; Supplier 4: Digi-Key; Supplier Part Number 4: 296-31531-6-ND; Output Type: CMOS; Input Type: CMOS; Operating Temperature Range(C): -55 to 125; Type: Standard; Code_JEDEC: MS-013; ComponentLink1Description: Manufacturer URL; ComponentLink1URL: http://www.ti.com/; ComponentLink2Description: Datasheet; ComponentLink2URL: http://www.ti.com/lit/ds/symlink/cd4515b.pdf; ComponentLink3Description: Package Specification; ComponentLink3URL: http://www.ti.com/lit/ml/mpds174a/mpds174a.pdf
footprint DW0024A_N (SOIC, 24-Leads, Body 15.6x7.6mm, Pitch 1.27mm, IPC Medium Density)
footprint DW0024A_M (SOIC, 24-Leads, Body 15.6x7.6mm, Pitch 1.27mm, IPC Low Density)
footprint DW0024A_L (SOIC, 24-Leads, Body 15.6x7.6mm, Pitch 1.27mm, IPC High Density)
pins: 1 STROBE (in), 2 DATA 1 (in), 3 DATA 2 (in), 4 S7 (out), 5 S6 (out), 6 S5 (out), 7 S4 (out), 8 S3 (out), 9 S1 (out), 10 S2 (out), 11 S0 (out), 12 VSS (power), 13 S13 (out), 14 S12 (out), 15 S15 (out), 16 S14 (out), 17 S9 (out), 18 S8 (out), 19 S11 (out), 20 S10 (out), 21 DATA 3 (in), 22 DATA 4 (in), 23 INH (in), 24 VDD (power)

## CD4516BE
designator U?
CMOS Presettable Binary Up/Down Counter, N0016A, TUBE; Generic Part Number: CD4516B; Manufacturer: Texas Instruments; PartNumber: CD4516BE; VCC(Max)(V): 18; VCC(Min)(V): 3; Inputs: 1; ICC @ Nom Voltage(Max)(mA): 0.03; Bits(#): 4; F @ Nom Voltage(Max)(Mhz): 8; Rating: Catalog; Technology Family: CD4000; Voltage(Nom)(V): 5,10,15; Schmitt Trigger: No; Output Drive (IOL/IOH)(Max)(mA): 1.5/-1.5; tpd @ Nom Voltage(Max)(ns): 200; DatasheetVersion: SCHS071B; PackageReference: N0016A; Supplier 1: Mouser; Supplier Part Number 1: 595-CD4516BE; Supplier 2: Digi-Key; Supplier Part Number 2: 296-2075-5-ND; Output Type: CMOS; Function: Counter; Input Type: CMOS; Operating Temperature Range(C): -55 to 125; Type: Binary; Code_JEDEC: MS-001; ComponentLink1Description: Manufacturer URL; ComponentLink1URL: http://www.ti.com/; ComponentLink2Description: Datasheet; ComponentLink2URL: http://www.ti.com/lit/ds/symlink/cd4516b.pdf; ComponentLink3Description: Package Specification; ComponentLink3URL: http://www.ti.com/lit/ml/mpdi002c/mpdi002c.pdf
footprint N0016A (DIP, 16-Leads, Body 19.7x6.6mm, Pitch 2.54mm)
pins: 1 PRESET EN (in), 2 Q4 (out), 3 P4 (in), 4 P1 (in), 5 ~{CARRY IN} (in), 6 Q1 (out), 7 ~{CARRY OUT} (out), 8 VSS (power), 9 RESET (in), 10 UP/DOWN (in), 11 Q2 (out), 12 P2 (in), 13 P3 (in), 14 Q3 (out), 15 CLK (in), 16 VDD (power)

## CD4516BF
designator U?
CMOS Presettable Binary Up/Down Counter, J0016A, TUBE; Generic Part Number: CD4516B-MIL; Manufacturer: Texas Instruments; PartNumber: CD4516BF; VCC(Max)(V): 18; VCC(Min)(V): 3; Inputs: 1; ICC @ Nom Voltage(Max)(mA): 0.03; Bits(#): 4; F @ Nom Voltage(Max)(Mhz): 8; Rating: Military; Technology Family: CD4000; Voltage(Nom)(V): 10; Schmitt Trigger: No; Output Drive (IOL/IOH)(Max)(mA): 1.5/-1.5; tpd @ Nom Voltage(Max)(ns): 200; DatasheetVersion: SCHS071B; PackageReference: J0016A; Output Type: CMOS; Function: Counter; Input Type: CMOS; Operating Temperature Range(C): -55 to 125; Type: Binary; ComponentLink1Description: Manufacturer URL; ComponentLink1URL: http://www.ti.com/; ComponentLink2Description: Datasheet; ComponentLink2URL: http://www.ti.com/lit/ds/symlink/cd4516b-mil.pdf; ComponentLink3Description: Package Specification; ComponentLink3URL: http://www.ti.com/lit/ml/mcer002d/mcer002d.pdf
footprint J0016A (DIP, 16-Leads, Body 21.35x7.2mm, Pitch 2.54mm)
pins: 1 PRESET EN (in), 2 Q4 (out), 3 P4 (in), 4 P1 (in), 5 ~{CARRY IN} (in), 6 Q1 (out), 7 ~{CARRY OUT} (out), 8 VSS (power), 9 RESET (in), 10 UP/DOWN (in), 11 Q2 (out), 12 P2 (in), 13 P3 (in), 14 Q3 (out), 15 CLK (in), 16 VDD (power)

## CD4516BF3A
designator U?
CMOS Presettable Binary Up/Down Counter, J0016A, TUBE; Generic Part Number: CD4516B-MIL; Manufacturer: Texas Instruments; PartNumber: CD4516BF3A; VCC(Max)(V): 18; VCC(Min)(V): 3; Inputs: 1; ICC @ Nom Voltage(Max)(mA): 0.03; Bits(#): 4; F @ Nom Voltage(Max)(Mhz): 8; Rating: Military; Technology Family: CD4000; Voltage(Nom)(V): 10; Schmitt Trigger: No; Output Drive (IOL/IOH)(Max)(mA): 1.5/-1.5; tpd @ Nom Voltage(Max)(ns): 200; DatasheetVersion: SCHS071B; PackageReference: J0016A; Output Type: CMOS; Function: Counter; Input Type: CMOS; Operating Temperature Range(C): -55 to 125; Type: Binary; ComponentLink1Description: Manufacturer URL; ComponentLink1URL: http://www.ti.com/; ComponentLink2Description: Datasheet; ComponentLink2URL: http://www.ti.com/lit/ds/symlink/cd4516b-mil.pdf; ComponentLink3Description: Package Specification; ComponentLink3URL: http://www.ti.com/lit/ml/mcer002d/mcer002d.pdf
footprint J0016A (DIP, 16-Leads, Body 21.35x7.2mm, Pitch 2.54mm)
pins: 1 PRESET EN (in), 2 Q4 (out), 3 P4 (in), 4 P1 (in), 5 ~{CARRY IN} (in), 6 Q1 (out), 7 ~{CARRY OUT} (out), 8 VSS (power), 9 RESET (in), 10 UP/DOWN (in), 11 Q2 (out), 12 P2 (in), 13 P3 (in), 14 Q3 (out), 15 CLK (in), 16 VDD (power)

## CD4516BNSR
designator U?
CMOS Presettable Binary Up/Down Counter, NS0016A, LARGE T&R; Generic Part Number: CD4516B; Manufacturer: Texas Instruments; PartNumber: CD4516BNSR; VCC(Max)(V): 18; VCC(Min)(V): 3; Inputs: 1; ICC @ Nom Voltage(Max)(mA): 0.03; Bits(#): 4; F @ Nom Voltage(Max)(Mhz): 8; Rating: Catalog; Technology Family: CD4000; Voltage(Nom)(V): 5,10,15; Schmitt Trigger: No; Output Drive (IOL/IOH)(Max)(mA): 1.5/-1.5; tpd @ Nom Voltage(Max)(ns): 200; DatasheetVersion: SCHS071B; PackageReference: NS0016A; Supplier 1: Mouser; Supplier Part Number 1: 595-CD4516BNSR; Supplier 2: Digi-Key; Supplier Part Number 2: 296-29362-2-ND; Supplier 3: Digi-Key; Supplier Part Number 3: 296-29362-1-ND; Supplier 4: Digi-Key; Supplier Part Number 4: 296-29362-6-ND; Output Type: CMOS; Function: Counter; Input Type: CMOS; Operating Temperature Range(C): -55 to 125; Type: Binary; ComponentLink1Description: Manufacturer URL; ComponentLink1URL: http://www.ti.com/; ComponentLink2Description: Datasheet; ComponentLink2URL: http://www.ti.com/lit/ds/symlink/cd4516b.pdf; ComponentLink3Description: Package Specification; ComponentLink3URL: http://www.ti.com/lit/ml/msop002a/msop002a.pdf
footprint NS0016A_N (SOIC,16-Leads,Body 10.5x5.6mm,Pitch 1.27mm,IPC Medium Density)
footprint NS0016A_M (SOIC,16-Leads,Body 10.5x5.6mm,Pitch 1.27mm,IPC Low Density)
footprint NS0016A_L (SOIC,16-Leads,Body 10.5x5.6mm,Pitch 1.27mm,IPC High Density)
pins: 1 PRESET EN (in), 2 Q4 (out), 3 P4 (in), 4 P1 (in), 5 ~{CARRY IN} (in), 6 Q1 (out), 7 ~{CARRY OUT} (out), 8 VSS (power), 9 RESET (in), 10 UP/DOWN (in), 11 Q2 (out), 12 P2 (in), 13 P3 (in), 14 Q3 (out), 15 CLK (in), 16 VDD (power)

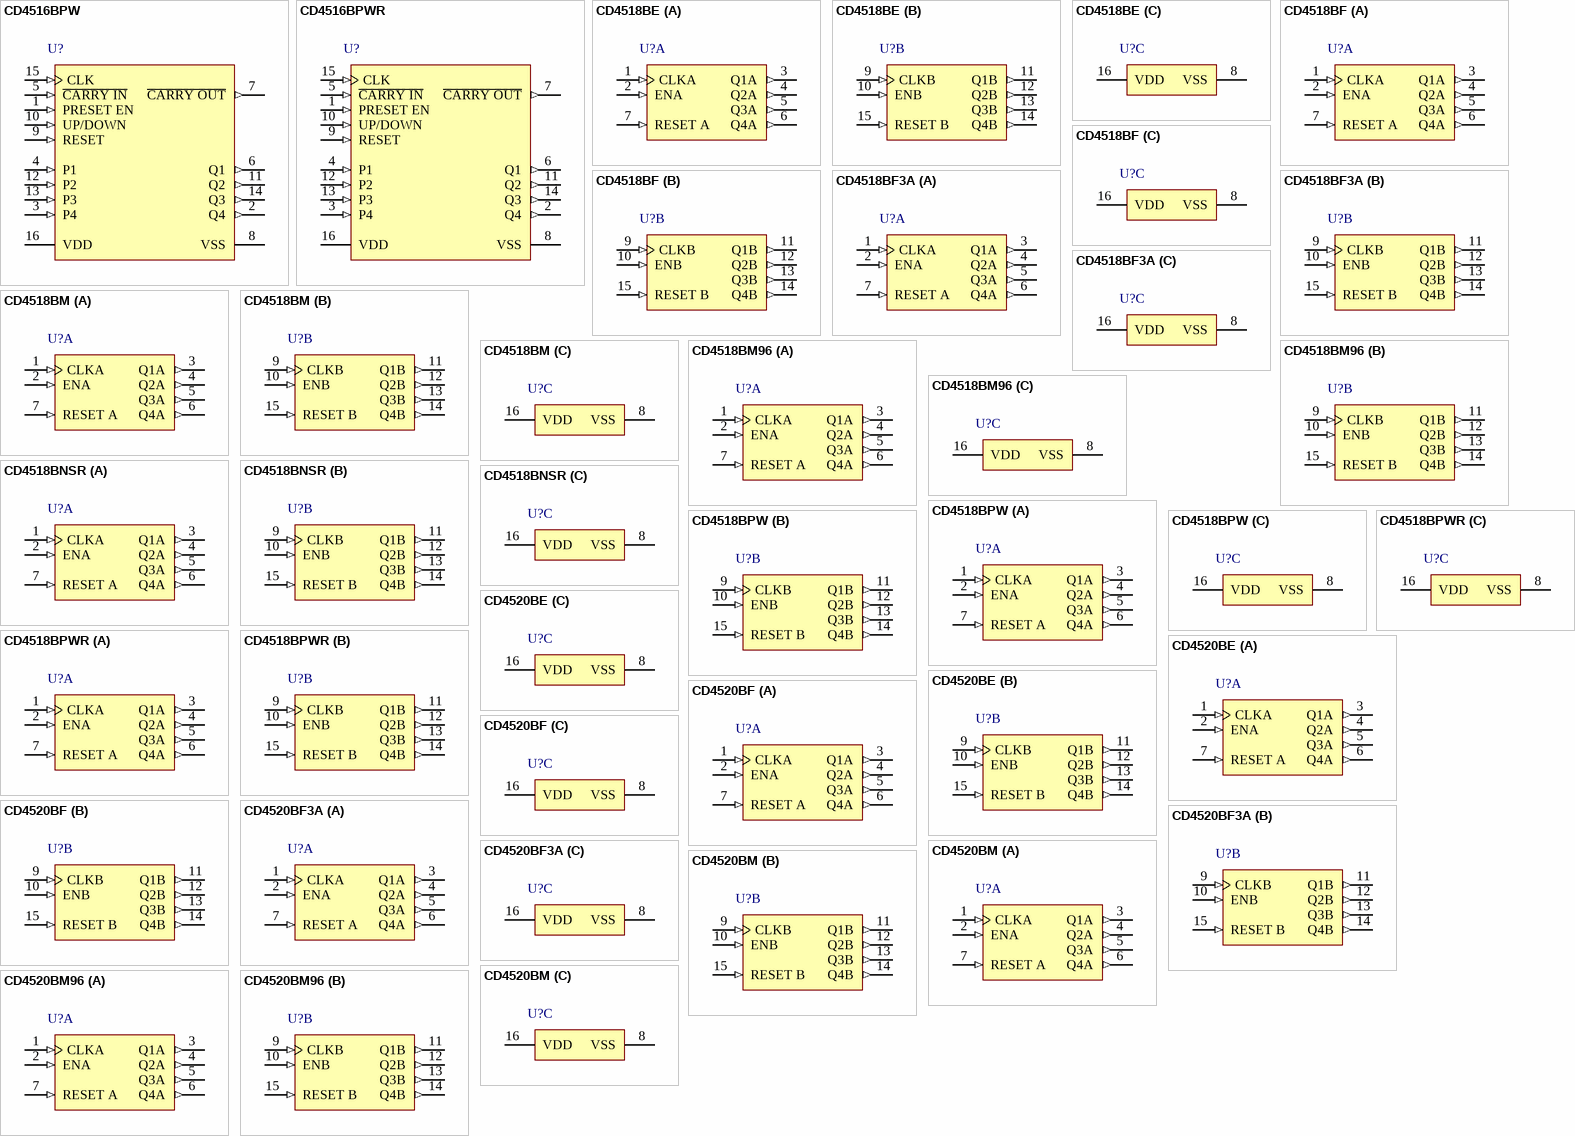
[diagram p29: symbols CD4516BPW to CD4520BM96]

## CD4516BPW
designator U?
CMOS Presettable Binary Up/Down Counter, PW0016A, TUBE; Generic Part Number: CD4516B; Manufacturer: Texas Instruments; PartNumber: CD4516BPW; VCC(Max)(V): 18; VCC(Min)(V): 3; Inputs: 1; ICC @ Nom Voltage(Max)(mA): 0.03; Bits(#): 4; F @ Nom Voltage(Max)(Mhz): 8; Rating: Catalog; Technology Family: CD4000; Voltage(Nom)(V): 5,10,15; Schmitt Trigger: No; Output Drive (IOL/IOH)(Max)(mA): 1.5/-1.5; tpd @ Nom Voltage(Max)(ns): 200; DatasheetVersion: SCHS071B; PackageReference: PW0016A; Supplier 1: Mouser; Supplier Part Number 1: 595-CD4516BPW; Supplier 2: Digi-Key; Supplier Part Number 2: 296-32924-5-ND; Output Type: CMOS; Function: Counter; Input Type: CMOS; Operating Temperature Range(C): -55 to 125; Type: Binary; Code_JEDEC: MO-153; ComponentLink1Description: Manufacturer URL; ComponentLink1URL: http://www.ti.com/; ComponentLink2Description: Datasheet; ComponentLink2URL: http://www.ti.com/lit/ds/symlink/cd4516b.pdf; ComponentLink3Description: Package Specification; ComponentLink3URL: http://www.ti.com/lit/ml/mpds361/mpds361.pdf
footprint PW0016A_N (SOP, 16-Leads, Body 5.1x4.5mm, Pitch 0.65mm, IPC Medium Density)
footprint PW0016A_M (SOP, 16-Leads, Body 5.1x4.5mm, Pitch 0.65mm, IPC Low Density)
footprint PW0016A_L (SOP, 16-Leads, Body 5.1x4.5mm, Pitch 0.65mm, IPC High Density)
pins: 1 PRESET EN (in), 2 Q4 (out), 3 P4 (in), 4 P1 (in), 5 ~{CARRY IN} (in), 6 Q1 (out), 7 ~{CARRY OUT} (out), 8 VSS (power), 9 RESET (in), 10 UP/DOWN (in), 11 Q2 (out), 12 P2 (in), 13 P3 (in), 14 Q3 (out), 15 CLK (in), 16 VDD (power)

## CD4516BPWR
designator U?
CMOS Presettable Binary Up/Down Counter, PW0016A, LARGE T&R; Generic Part Number: CD4516B; Manufacturer: Texas Instruments; PartNumber: CD4516BPWR; VCC(Max)(V): 18; VCC(Min)(V): 3; Inputs: 1; ICC @ Nom Voltage(Max)(mA): 0.03; Bits(#): 4; F @ Nom Voltage(Max)(Mhz): 8; Rating: Catalog; Technology Family: CD4000; Voltage(Nom)(V): 5,10,15; Schmitt Trigger: No; Output Drive (IOL/IOH)(Max)(mA): 1.5/-1.5; tpd @ Nom Voltage(Max)(ns): 200; DatasheetVersion: SCHS071B; PackageReference: PW0016A; Supplier 1: Mouser; Supplier Part Number 1: 595-CD4516BPWR; Supplier 2: Digi-Key; Supplier Part Number 2: 296-3530-2-ND; Supplier 3: Digi-Key; Supplier Part Number 3: 296-3530-1-ND; Supplier 4: Digi-Key; Supplier Part Number 4: 296-3530-6-ND; Output Type: CMOS; Function: Counter; Input Type: CMOS; Operating Temperature Range(C): -55 to 125; Type: Binary; Code_JEDEC: MO-153; ComponentLink1Description: Manufacturer URL; ComponentLink1URL: http://www.ti.com/; ComponentLink2Description: Datasheet; ComponentLink2URL: http://www.ti.com/lit/ds/symlink/cd4516b.pdf; ComponentLink3Description: Package Specification; ComponentLink3URL: http://www.ti.com/lit/ml/mpds361/mpds361.pdf
footprint PW0016A_N (SOP, 16-Leads, Body 5.1x4.5mm, Pitch 0.65mm, IPC Medium Density)
footprint PW0016A_M (SOP, 16-Leads, Body 5.1x4.5mm, Pitch 0.65mm, IPC Low Density)
footprint PW0016A_L (SOP, 16-Leads, Body 5.1x4.5mm, Pitch 0.65mm, IPC High Density)
pins: 1 PRESET EN (in), 2 Q4 (out), 3 P4 (in), 4 P1 (in), 5 ~{CARRY IN} (in), 6 Q1 (out), 7 ~{CARRY OUT} (out), 8 VSS (power), 9 RESET (in), 10 UP/DOWN (in), 11 Q2 (out), 12 P2 (in), 13 P3 (in), 14 Q3 (out), 15 CLK (in), 16 VDD (power)

## CD4518BE
designator U?
CMOS Dual BCD Up-Counter, N0016A, TUBE; Generic Part Number: CD4518B; Manufacturer: Texas Instruments; PartNumber: CD4518BE; VCC(Max)(V): 18; VCC(Min)(V): 3; Inputs: 1; ICC @ Nom Voltage(Max)(mA): 0.03; Bits(#): 4; F @ Nom Voltage(Max)(Mhz): 8; Rating: Catalog; Technology Family: CD4000; Voltage(Nom)(V): 5,10,15; Schmitt Trigger: No; Output Drive (IOL/IOH)(Max)(mA): 1.5/-1.5; tpd @ Nom Voltage(Max)(ns): 230; DatasheetVersion: SCHS076D; PackageReference: N0016A; Supplier 1: Mouser; Supplier Part Number 1: 595-CD4518BE; Supplier 2: Digi-Key; Supplier Part Number 2: 296-2076-5-ND; Output Type: CMOS; Function: Counter; Input Type: CMOS; Operating Temperature Range(C): -55 to 125; Type: Other; Code_JEDEC: MS-001; ComponentLink1Description: Manufacturer URL; ComponentLink1URL: http://www.ti.com/; ComponentLink2Description: Datasheet; ComponentLink2URL: http://www.ti.com/lit/ds/symlink/cd4518b.pdf; ComponentLink3Description: Package Specification; ComponentLink3URL: http://www.ti.com/lit/ml/mpdi002c/mpdi002c.pdf
footprint N0016A (DIP, 16-Leads, Body 19.7x6.6mm, Pitch 2.54mm)
part A pins: 1 CLKA (in), 2 ENA (in), 3 Q1A (out), 4 Q2A (out), 5 Q3A (out), 6 Q4A (out), 7 RESET A (in)
part B pins: 9 CLKB (in), 10 ENB (in), 11 Q1B (out), 12 Q2B (out), 13 Q3B (out), 14 Q4B (out), 15 RESET B (in)
part C pins: 8 VSS (power), 16 VDD (power)

## CD4518BF
designator U?
CMOS Dual BCD Up-Counter, J0016A, TUBE; Generic Part Number: CD4518B-MIL; Manufacturer: Texas Instruments; PartNumber: CD4518BF; VCC(Max)(V): 18; VCC(Min)(V): 3; Inputs: 1; ICC @ Nom Voltage(Max)(mA): 0.03; Bits(#): 4; F @ Nom Voltage(Max)(Mhz): 8; Rating: Military; Technology Family: CD4000; Voltage(Nom)(V): 10; Schmitt Trigger: No; Output Drive (IOL/IOH)(Max)(mA): 1.5/-1.5; tpd @ Nom Voltage(Max)(ns): 230; DatasheetVersion: SCHS076D; PackageReference: J0016A; Output Type: CMOS; Function: Counter; Input Type: CMOS; Operating Temperature Range(C): -55 to 125; Type: Other; ComponentLink1Description: Manufacturer URL; ComponentLink1URL: http://www.ti.com/; ComponentLink2Description: Datasheet; ComponentLink2URL: http://www.ti.com/lit/ds/symlink/cd4518b-mil.pdf; ComponentLink3Description: Package Specification; ComponentLink3URL: http://www.ti.com/lit/ml/mcer002d/mcer002d.pdf
footprint J0016A (DIP, 16-Leads, Body 21.35x7.2mm, Pitch 2.54mm)
part A pins: 1 CLKA (in), 2 ENA (in), 3 Q1A (out), 4 Q2A (out), 5 Q3A (out), 6 Q4A (out), 7 RESET A (in)
part B pins: 9 CLKB (in), 10 ENB (in), 11 Q1B (out), 12 Q2B (out), 13 Q3B (out), 14 Q4B (out), 15 RESET B (in)
part C pins: 8 VSS (power), 16 VDD (power)

## CD4518BF3A
designator U?
CMOS Dual BCD Up-Counter, J0016A, TUBE; Generic Part Number: CD4518B-MIL; Manufacturer: Texas Instruments; PartNumber: CD4518BF3A; VCC(Max)(V): 18; VCC(Min)(V): 3; Inputs: 1; ICC @ Nom Voltage(Max)(mA): 0.03; Bits(#): 4; F @ Nom Voltage(Max)(Mhz): 8; Rating: Military; Technology Family: CD4000; Voltage(Nom)(V): 10; Schmitt Trigger: No; Output Drive (IOL/IOH)(Max)(mA): 1.5/-1.5; tpd @ Nom Voltage(Max)(ns): 230; DatasheetVersion: SCHS076D; PackageReference: J0016A; Output Type: CMOS; Function: Counter; Input Type: CMOS; Operating Temperature Range(C): -55 to 125; Type: Other; ComponentLink1Description: Manufacturer URL; ComponentLink1URL: http://www.ti.com/; ComponentLink2Description: Datasheet; ComponentLink2URL: http://www.ti.com/lit/ds/symlink/cd4518b-mil.pdf; ComponentLink3Description: Package Specification; ComponentLink3URL: http://www.ti.com/lit/ml/mcer002d/mcer002d.pdf
footprint J0016A (DIP, 16-Leads, Body 21.35x7.2mm, Pitch 2.54mm)
part A pins: 1 CLKA (in), 2 ENA (in), 3 Q1A (out), 4 Q2A (out), 5 Q3A (out), 6 Q4A (out), 7 RESET A (in)
part B pins: 9 CLKB (in), 10 ENB (in), 11 Q1B (out), 12 Q2B (out), 13 Q3B (out), 14 Q4B (out), 15 RESET B (in)
part C pins: 8 VSS (power), 16 VDD (power)

## CD4518BM
designator U?
CMOS Dual BCD Up-Counter, D0016A, TUBE; Generic Part Number: CD4518B; Manufacturer: Texas Instruments; PartNumber: CD4518BM; VCC(Max)(V): 18; VCC(Min)(V): 3; Inputs: 1; ICC @ Nom Voltage(Max)(mA): 0.03; Bits(#): 4; F @ Nom Voltage(Max)(Mhz): 8; Rating: Catalog; Technology Family: CD4000; Voltage(Nom)(V): 5,10,15; Schmitt Trigger: No; Output Drive (IOL/IOH)(Max)(mA): 1.5/-1.5; tpd @ Nom Voltage(Max)(ns): 230; DatasheetVersion: SCHS076D; PackageReference: D0016A; Supplier 1: Mouser; Supplier Part Number 1: 595-CD4518BM; Supplier 2: Digi-Key; Supplier Part Number 2: 296-32925-5-ND; Output Type: CMOS; Function: Counter; Input Type: CMOS; Operating Temperature Range(C): -55 to 125; Type: Other; Code_JEDEC: MS-012 variation AC; ComponentLink1Description: Manufacturer URL; ComponentLink1URL: http://www.ti.com/; ComponentLink2Description: Datasheet; ComponentLink2URL: http://www.ti.com/lit/ds/symlink/cd4518b.pdf; ComponentLink3Description: Package Specification; ComponentLink3URL: http://www.ti.com/lit/ml/mpds178g/mpds178g.pdf
footprint D0016A_N (SOIC, 16-Leads, Body 10x4mm, Pitch 1.27mm, IPC Medium Density)
footprint D0016A_M (SOIC, 16-Leads, Body 10x4mm, Pitch 1.27mm, IPC Low Density)
footprint D0016A_L (SOIC, 16-Leads, Body 10x4mm, Pitch 1.27mm, IPC High Density)
part A pins: 1 CLKA (in), 2 ENA (in), 3 Q1A (out), 4 Q2A (out), 5 Q3A (out), 6 Q4A (out), 7 RESET A (in)
part B pins: 9 CLKB (in), 10 ENB (in), 11 Q1B (out), 12 Q2B (out), 13 Q3B (out), 14 Q4B (out), 15 RESET B (in)
part C pins: 8 VSS (power), 16 VDD (power)